# Altium footprint library Connector_Samtec_HLE_SMD.PcbLib: 290 footprints (part 2 of 24)
Each footprint in its own frame and in the unit in brackets; x right, y up, seen from the top. Pads: shape width x height; smd on the part's side, far side on the other; paste and mask are expansions set on the pad; w line width, h text height; cw(c..) or ccw(c..) is an arc to the next point about the centre after c.
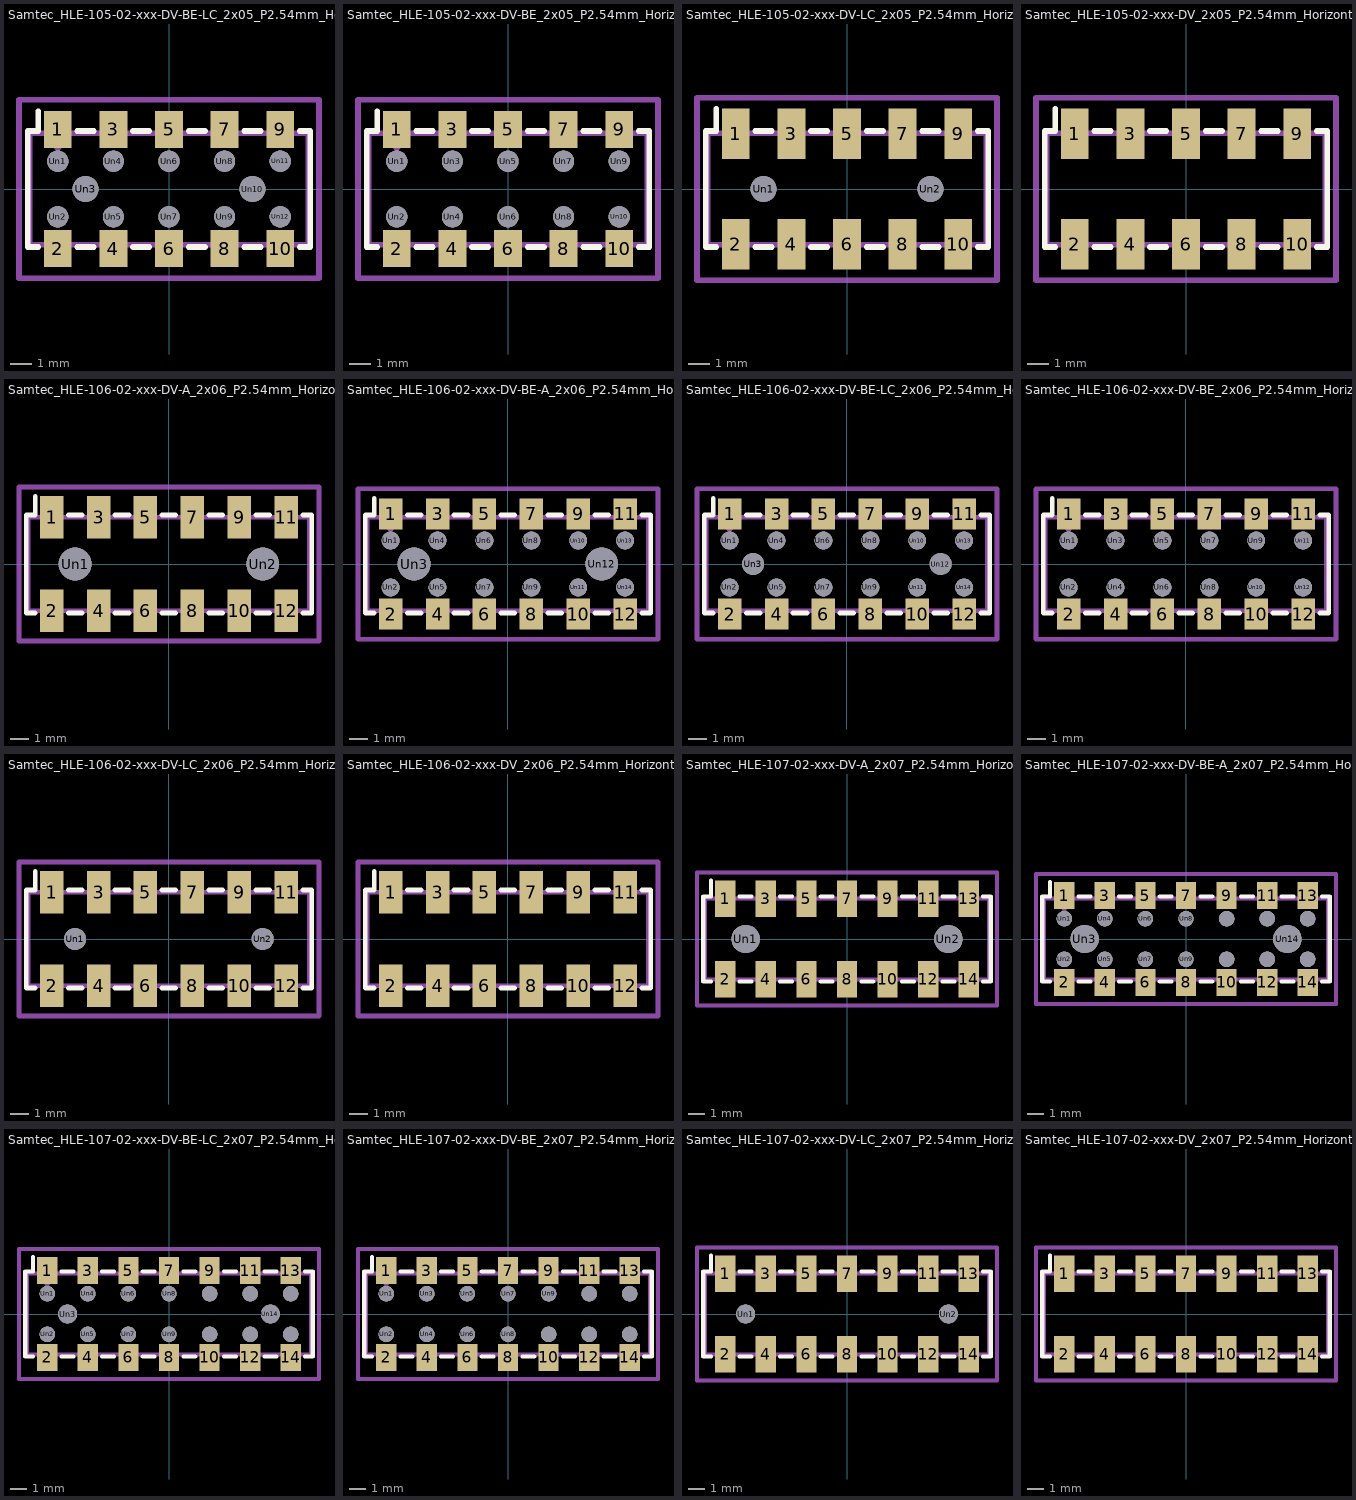
[diagram p1: the footprints below, top view; thin cyan lines are the x and y axes]

## Samtec_HLE-105-02-xxx-DV-BE-LC_2x05_P2.54mm_Horizontal [mm]
pads (22):
  rect 1.27x1.68 smd: 1(-5.08,2.72) 2(-5.08,-2.72) 3(-2.54,2.72) 4(-2.54,-2.72) 5(0,2.72) 6(0,-2.72) 7(2.54,2.72) 8(2.54,-2.72) 9(5.08,2.72) 10(5.08,-2.72)
  round 0.97 hole 0.97: Un1(-5.08,1.27) Un2(-5.08,-1.27) Un4(-2.54,1.27) Un5(-2.54,-1.27) Un6(0,1.27) Un7(0,-1.27) Un8(2.54,1.27) Un9(2.54,-1.27) Un11(5.08,1.27) Un12(5.08,-1.27)
  round 1.19 hole 1.19: Un3(-3.81,0) Un10(3.81,0)
F.SilkS:
  lines w0.254: -5.975,-2.65 -6.46,-2.65 -6.46,2.65 -5.975,2.65 -5.975,3.56 ; -4.185,-2.65 -3.435,-2.65 ; -4.185,2.65 -3.435,2.65 ; -1.645,-2.65 -0.895,-2.65 ; -1.645,2.65 -0.895,2.65 ; 0.895,-2.65 1.645,-2.65 ; 0.895,2.65 1.645,2.65 ; 3.435,-2.65 4.185,-2.65 ; 3.435,2.65 4.185,2.65 ; 5.975,-2.65 6.46,-2.65 6.46,2.65 5.975,2.65
Top Assembly:
  lines w0.254: -5.58,2.54 -5.08,1.833 -4.58,2.54 ; -6.35,-2.54 6.35,-2.54 6.35,2.54 -6.35,2.54 -6.35,-2.54
  text "'.Designator'" at -4.047,-2.68 h1
Top Courtyard:
  lines w0.254: -6.85,-4.07 6.85,-4.07 6.85,4.07 -6.85,4.07 -6.85,-4.07
Top Designator:
  text ".Designator" at -7.618,-0.508 h1.52

## Samtec_HLE-105-02-xxx-DV-BE_2x05_P2.54mm_Horizontal [mm]
pads (20):
  rect 1.27x1.68 smd: 1(-5.08,2.72) 2(-5.08,-2.72) 3(-2.54,2.72) 4(-2.54,-2.72) 5(0,2.72) 6(0,-2.72) 7(2.54,2.72) 8(2.54,-2.72) 9(5.08,2.72) 10(5.08,-2.72)
  round 0.97 hole 0.97: Un1(-5.08,1.27) Un2(-5.08,-1.27) Un3(-2.54,1.27) Un4(-2.54,-1.27) Un5(0,1.27) Un6(0,-1.27) Un7(2.54,1.27) Un8(2.54,-1.27) Un9(5.08,1.27) Un10(5.08,-1.27)
F.SilkS:
  lines w0.254: -5.975,-2.65 -6.46,-2.65 -6.46,2.65 -5.975,2.65 -5.975,3.56 ; -4.185,-2.65 -3.435,-2.65 ; -4.185,2.65 -3.435,2.65 ; -1.645,-2.65 -0.895,-2.65 ; -1.645,2.65 -0.895,2.65 ; 0.895,-2.65 1.645,-2.65 ; 0.895,2.65 1.645,2.65 ; 3.435,-2.65 4.185,-2.65 ; 3.435,2.65 4.185,2.65 ; 5.975,-2.65 6.46,-2.65 6.46,2.65 5.975,2.65
Top Assembly:
  lines w0.254: -5.58,2.54 -5.08,1.833 -4.58,2.54 ; -6.35,-2.54 6.35,-2.54 6.35,2.54 -6.35,2.54 -6.35,-2.54
  text "'.Designator'" at -4.047,-2.68 h1
Top Courtyard:
  lines w0.254: -6.85,-4.07 6.85,-4.07 6.85,4.07 -6.85,4.07 -6.85,-4.07
Top Designator:
  text ".Designator" at -7.618,-0.508 h1.52

## Samtec_HLE-105-02-xxx-DV-LC_2x05_P2.54mm_Horizontal [mm]
pads (12):
  rect 1.27x2.29 smd: 1(-5.08,2.525) 2(-5.08,-2.525) 3(-2.54,2.525) 4(-2.54,-2.525) 5(0,2.525) 6(0,-2.525) 7(2.54,2.525) 8(2.54,-2.525) 9(5.08,2.525) 10(5.08,-2.525)
  round 1.19 hole 1.19: Un1(-3.81,0) Un2(3.81,0)
F.SilkS:
  lines w0.254: -5.975,-2.65 -6.46,-2.65 -6.46,2.65 -5.975,2.65 -5.975,3.67 ; -4.185,-2.65 -3.435,-2.65 ; -4.185,2.65 -3.435,2.65 ; -1.645,-2.65 -0.895,-2.65 ; -1.645,2.65 -0.895,2.65 ; 0.895,-2.65 1.645,-2.65 ; 0.895,2.65 1.645,2.65 ; 3.435,-2.65 4.185,-2.65 ; 3.435,2.65 4.185,2.65 ; 5.975,-2.65 6.46,-2.65 6.46,2.65 5.975,2.65
Top Assembly:
  lines w0.254: -5.58,2.54 -5.08,1.833 -4.58,2.54 ; -6.35,-2.54 6.35,-2.54 6.35,2.54 -6.35,2.54 -6.35,-2.54
  text "'.Designator'" at -4.047,-2.68 h1
Top Courtyard:
  lines w0.254: -6.85,-4.17 6.85,-4.17 6.85,4.17 -6.85,4.17 -6.85,-4.17
Top Designator:
  text ".Designator" at -7.618,-0.508 h1.52

## Samtec_HLE-105-02-xxx-DV_2x05_P2.54mm_Horizontal [mm]
pads (10):
  rect 1.27x2.29 smd: 1(-5.08,2.525) 2(-5.08,-2.525) 3(-2.54,2.525) 4(-2.54,-2.525) 5(0,2.525) 6(0,-2.525) 7(2.54,2.525) 8(2.54,-2.525) 9(5.08,2.525) 10(5.08,-2.525)
F.SilkS:
  lines w0.254: -5.975,-2.65 -6.46,-2.65 -6.46,2.65 -5.975,2.65 -5.975,3.67 ; -4.185,-2.65 -3.435,-2.65 ; -4.185,2.65 -3.435,2.65 ; -1.645,-2.65 -0.895,-2.65 ; -1.645,2.65 -0.895,2.65 ; 0.895,-2.65 1.645,-2.65 ; 0.895,2.65 1.645,2.65 ; 3.435,-2.65 4.185,-2.65 ; 3.435,2.65 4.185,2.65 ; 5.975,-2.65 6.46,-2.65 6.46,2.65 5.975,2.65
Top Assembly:
  lines w0.254: -5.58,2.54 -5.08,1.833 -4.58,2.54 ; -6.35,-2.54 6.35,-2.54 6.35,2.54 -6.35,2.54 -6.35,-2.54
  text "'.Designator'" at -4.047,-2.68 h1
Top Courtyard:
  lines w0.254: -6.85,-4.17 6.85,-4.17 6.85,4.17 -6.85,4.17 -6.85,-4.17
Top Designator:
  text ".Designator" at -7.618,-0.508 h1.52

## Samtec_HLE-106-02-xxx-DV-A_2x06_P2.54mm_Horizontal [mm]
pads (14):
  rect 1.27x2.29 smd: 1(-6.35,2.525) 2(-6.35,-2.525) 3(-3.81,2.525) 4(-3.81,-2.525) 5(-1.27,2.525) 6(-1.27,-2.525) 7(1.27,2.525) 8(1.27,-2.525) 9(3.81,2.525) 10(3.81,-2.525) 11(6.35,2.525) 12(6.35,-2.525)
  round 1.78 hole 1.78: Un1(-5.08,0) Un2(5.08,0)
F.SilkS:
  lines w0.254: -7.245,-2.65 -7.73,-2.65 -7.73,2.65 -7.245,2.65 -7.245,3.67 ; -5.455,-2.65 -4.705,-2.65 ; -5.455,2.65 -4.705,2.65 ; -2.915,-2.65 -2.165,-2.65 ; -2.915,2.65 -2.165,2.65 ; -0.375,-2.65 0.375,-2.65 ; -0.375,2.65 0.375,2.65 ; 2.165,-2.65 2.915,-2.65 ; 2.165,2.65 2.915,2.65 ; 4.705,-2.65 5.455,-2.65 ; 4.705,2.65 5.455,2.65 ; 7.245,-2.65 7.73,-2.65 7.73,2.65 7.245,2.65
Top Assembly:
  lines w0.254: -6.85,2.54 -6.35,1.833 -5.85,2.54 ; -7.62,-2.54 7.62,-2.54 7.62,2.54 -7.62,2.54 -7.62,-2.54
  text "'.Designator'" at -4.047,-2.68 h1
Top Courtyard:
  lines w0.254: -8.12,-4.17 8.13,-4.17 8.13,4.17 -8.12,4.17 -8.12,-4.17
Top Designator:
  text ".Designator" at -7.613,-0.508 h1.52

## Samtec_HLE-106-02-xxx-DV-BE-A_2x06_P2.54mm_Horizontal [mm]
pads (26):
  rect 1.27x1.68 smd: 1(-6.35,2.72) 2(-6.35,-2.72) 3(-3.81,2.72) 4(-3.81,-2.72) 5(-1.27,2.72) 6(-1.27,-2.72) 7(1.27,2.72) 8(1.27,-2.72) 9(3.81,2.72) 10(3.81,-2.72) 11(6.35,2.72) 12(6.35,-2.72)
  round 0.97 hole 0.97: Un1(-6.35,1.27) Un2(-6.35,-1.27) Un4(-3.81,1.27) Un5(-3.81,-1.27) Un6(-1.27,1.27) Un7(-1.27,-1.27) Un8(1.27,1.27) Un9(1.27,-1.27) Un10(3.81,1.27) Un11(3.81,-1.27) Un13(6.35,1.27) Un14(6.35,-1.27)
  round 1.78 hole 1.78: Un3(-5.08,0) Un12(5.08,0)
F.SilkS:
  lines w0.254: -7.245,-2.65 -7.73,-2.65 -7.73,2.65 -7.245,2.65 -7.245,3.56 ; -5.455,-2.65 -4.705,-2.65 ; -5.455,2.65 -4.705,2.65 ; -2.915,-2.65 -2.165,-2.65 ; -2.915,2.65 -2.165,2.65 ; -0.375,-2.65 0.375,-2.65 ; -0.375,2.65 0.375,2.65 ; 2.165,-2.65 2.915,-2.65 ; 2.165,2.65 2.915,2.65 ; 4.705,-2.65 5.455,-2.65 ; 4.705,2.65 5.455,2.65 ; 7.245,-2.65 7.73,-2.65 7.73,2.65 7.245,2.65
Top Assembly:
  lines w0.254: -6.85,2.54 -6.35,1.833 -5.85,2.54 ; -7.62,-2.54 7.62,-2.54 7.62,2.54 -7.62,2.54 -7.62,-2.54
  text "'.Designator'" at -4.047,-2.68 h1
Top Courtyard:
  lines w0.254: -8.12,-4.07 8.13,-4.07 8.13,4.07 -8.12,4.07 -8.12,-4.07
Top Designator:
  text ".Designator" at -7.613,-0.508 h1.52

## Samtec_HLE-106-02-xxx-DV-BE-LC_2x06_P2.54mm_Horizontal [mm]
pads (26):
  rect 1.27x1.68 smd: 1(-6.35,2.72) 2(-6.35,-2.72) 3(-3.81,2.72) 4(-3.81,-2.72) 5(-1.27,2.72) 6(-1.27,-2.72) 7(1.27,2.72) 8(1.27,-2.72) 9(3.81,2.72) 10(3.81,-2.72) 11(6.35,2.72) 12(6.35,-2.72)
  round 0.97 hole 0.97: Un1(-6.35,1.27) Un2(-6.35,-1.27) Un4(-3.81,1.27) Un5(-3.81,-1.27) Un6(-1.27,1.27) Un7(-1.27,-1.27) Un8(1.27,1.27) Un9(1.27,-1.27) Un10(3.81,1.27) Un11(3.81,-1.27) Un13(6.35,1.27) Un14(6.35,-1.27)
  round 1.19 hole 1.19: Un3(-5.08,0) Un12(5.08,0)
F.SilkS:
  lines w0.254: -7.245,-2.65 -7.73,-2.65 -7.73,2.65 -7.245,2.65 -7.245,3.56 ; -5.455,-2.65 -4.705,-2.65 ; -5.455,2.65 -4.705,2.65 ; -2.915,-2.65 -2.165,-2.65 ; -2.915,2.65 -2.165,2.65 ; -0.375,-2.65 0.375,-2.65 ; -0.375,2.65 0.375,2.65 ; 2.165,-2.65 2.915,-2.65 ; 2.165,2.65 2.915,2.65 ; 4.705,-2.65 5.455,-2.65 ; 4.705,2.65 5.455,2.65 ; 7.245,-2.65 7.73,-2.65 7.73,2.65 7.245,2.65
Top Assembly:
  lines w0.254: -6.85,2.54 -6.35,1.833 -5.85,2.54 ; -7.62,-2.54 7.62,-2.54 7.62,2.54 -7.62,2.54 -7.62,-2.54
  text "'.Designator'" at -4.047,-2.68 h1
Top Courtyard:
  lines w0.254: -8.12,-4.07 8.13,-4.07 8.13,4.07 -8.12,4.07 -8.12,-4.07
Top Designator:
  text ".Designator" at -7.613,-0.508 h1.52

## Samtec_HLE-106-02-xxx-DV-BE_2x06_P2.54mm_Horizontal [mm]
pads (24):
  rect 1.27x1.68 smd: 1(-6.35,2.72) 2(-6.35,-2.72) 3(-3.81,2.72) 4(-3.81,-2.72) 5(-1.27,2.72) 6(-1.27,-2.72) 7(1.27,2.72) 8(1.27,-2.72) 9(3.81,2.72) 10(3.81,-2.72) 11(6.35,2.72) 12(6.35,-2.72)
  round 0.97 hole 0.97: Un1(-6.35,1.27) Un2(-6.35,-1.27) Un3(-3.81,1.27) Un4(-3.81,-1.27) Un5(-1.27,1.27) Un6(-1.27,-1.27) Un7(1.27,1.27) Un8(1.27,-1.27) Un9(3.81,1.27) Un10(3.81,-1.27) Un11(6.35,1.27) Un12(6.35,-1.27)
F.SilkS:
  lines w0.254: -7.245,-2.65 -7.73,-2.65 -7.73,2.65 -7.245,2.65 -7.245,3.56 ; -5.455,-2.65 -4.705,-2.65 ; -5.455,2.65 -4.705,2.65 ; -2.915,-2.65 -2.165,-2.65 ; -2.915,2.65 -2.165,2.65 ; -0.375,-2.65 0.375,-2.65 ; -0.375,2.65 0.375,2.65 ; 2.165,-2.65 2.915,-2.65 ; 2.165,2.65 2.915,2.65 ; 4.705,-2.65 5.455,-2.65 ; 4.705,2.65 5.455,2.65 ; 7.245,-2.65 7.73,-2.65 7.73,2.65 7.245,2.65
Top Assembly:
  lines w0.254: -6.85,2.54 -6.35,1.833 -5.85,2.54 ; -7.62,-2.54 7.62,-2.54 7.62,2.54 -7.62,2.54 -7.62,-2.54
  text "'.Designator'" at -4.047,-2.68 h1
Top Courtyard:
  lines w0.254: -8.12,-4.07 8.13,-4.07 8.13,4.07 -8.12,4.07 -8.12,-4.07
Top Designator:
  text ".Designator" at -7.613,-0.508 h1.52

## Samtec_HLE-106-02-xxx-DV-LC_2x06_P2.54mm_Horizontal [mm]
pads (14):
  rect 1.27x2.29 smd: 1(-6.35,2.525) 2(-6.35,-2.525) 3(-3.81,2.525) 4(-3.81,-2.525) 5(-1.27,2.525) 6(-1.27,-2.525) 7(1.27,2.525) 8(1.27,-2.525) 9(3.81,2.525) 10(3.81,-2.525) 11(6.35,2.525) 12(6.35,-2.525)
  round 1.19 hole 1.19: Un1(-5.08,0) Un2(5.08,0)
F.SilkS:
  lines w0.254: -7.245,-2.65 -7.73,-2.65 -7.73,2.65 -7.245,2.65 -7.245,3.67 ; -5.455,-2.65 -4.705,-2.65 ; -5.455,2.65 -4.705,2.65 ; -2.915,-2.65 -2.165,-2.65 ; -2.915,2.65 -2.165,2.65 ; -0.375,-2.65 0.375,-2.65 ; -0.375,2.65 0.375,2.65 ; 2.165,-2.65 2.915,-2.65 ; 2.165,2.65 2.915,2.65 ; 4.705,-2.65 5.455,-2.65 ; 4.705,2.65 5.455,2.65 ; 7.245,-2.65 7.73,-2.65 7.73,2.65 7.245,2.65
Top Assembly:
  lines w0.254: -6.85,2.54 -6.35,1.833 -5.85,2.54 ; -7.62,-2.54 7.62,-2.54 7.62,2.54 -7.62,2.54 -7.62,-2.54
  text "'.Designator'" at -4.047,-2.68 h1
Top Courtyard:
  lines w0.254: -8.12,-4.17 8.13,-4.17 8.13,4.17 -8.12,4.17 -8.12,-4.17
Top Designator:
  text ".Designator" at -7.613,-0.508 h1.52

## Samtec_HLE-106-02-xxx-DV_2x06_P2.54mm_Horizontal [mm]
pads (12):
  rect 1.27x2.29 smd: 1(-6.35,2.525) 2(-6.35,-2.525) 3(-3.81,2.525) 4(-3.81,-2.525) 5(-1.27,2.525) 6(-1.27,-2.525) 7(1.27,2.525) 8(1.27,-2.525) 9(3.81,2.525) 10(3.81,-2.525) 11(6.35,2.525) 12(6.35,-2.525)
F.SilkS:
  lines w0.254: -7.245,-2.65 -7.73,-2.65 -7.73,2.65 -7.245,2.65 -7.245,3.67 ; -5.455,-2.65 -4.705,-2.65 ; -5.455,2.65 -4.705,2.65 ; -2.915,-2.65 -2.165,-2.65 ; -2.915,2.65 -2.165,2.65 ; -0.375,-2.65 0.375,-2.65 ; -0.375,2.65 0.375,2.65 ; 2.165,-2.65 2.915,-2.65 ; 2.165,2.65 2.915,2.65 ; 4.705,-2.65 5.455,-2.65 ; 4.705,2.65 5.455,2.65 ; 7.245,-2.65 7.73,-2.65 7.73,2.65 7.245,2.65
Top Assembly:
  lines w0.254: -6.85,2.54 -6.35,1.833 -5.85,2.54 ; -7.62,-2.54 7.62,-2.54 7.62,2.54 -7.62,2.54 -7.62,-2.54
  text "'.Designator'" at -4.047,-2.68 h1
Top Courtyard:
  lines w0.254: -8.12,-4.17 8.13,-4.17 8.13,4.17 -8.12,4.17 -8.12,-4.17
Top Designator:
  text ".Designator" at -7.613,-0.508 h1.52

## Samtec_HLE-107-02-xxx-DV-A_2x07_P2.54mm_Horizontal [mm]
pads (16):
  rect 1.27x2.29 smd: 1(-7.62,2.525) 2(-7.62,-2.525) 3(-5.08,2.525) 4(-5.08,-2.525) 5(-2.54,2.525) 6(-2.54,-2.525) 7(0,2.525) 8(0,-2.525) 9(2.54,2.525) 10(2.54,-2.525) 11(5.08,2.525) 12(5.08,-2.525) 13(7.62,2.525) 14(7.62,-2.525)
  round 1.78 hole 1.78: Un1(-6.35,0) Un2(6.35,0)
F.SilkS:
  lines w0.254: -8.515,-2.65 -9,-2.65 -9,2.65 -8.515,2.65 -8.515,3.67 ; -6.725,-2.65 -5.975,-2.65 ; -6.725,2.65 -5.975,2.65 ; -4.185,-2.65 -3.435,-2.65 ; -4.185,2.65 -3.435,2.65 ; -1.645,-2.65 -0.895,-2.65 ; -1.645,2.65 -0.895,2.65 ; 0.895,-2.65 1.645,-2.65 ; 0.895,2.65 1.645,2.65 ; 3.435,-2.65 4.185,-2.65 ; 3.435,2.65 4.185,2.65 ; 5.975,-2.65 6.725,-2.65 ; 5.975,2.65 6.725,2.65 ; 8.515,-2.65 9,-2.65 9,2.65 8.515,2.65
Top Assembly:
  lines w0.254: -8.12,2.54 -7.62,1.833 -7.12,2.54 ; -8.89,-2.54 8.89,-2.54 8.89,2.54 -8.89,2.54 -8.89,-2.54
  text "'.Designator'" at -4.047,-2.68 h1
Top Courtyard:
  lines w0.254: -9.39,-4.17 9.39,-4.17 9.39,4.17 -9.39,4.17 -9.39,-4.17
Top Designator:
  text ".Designator" at -7.618,-0.508 h1.52

## Samtec_HLE-107-02-xxx-DV-BE-A_2x07_P2.54mm_Horizontal [mm]
pads (30):
  rect 1.27x1.68 smd: 1(-7.62,2.72) 2(-7.62,-2.72) 3(-5.08,2.72) 4(-5.08,-2.72) 5(-2.54,2.72) 6(-2.54,-2.72) 7(0,2.72) 8(0,-2.72) 9(2.54,2.72) 10(2.54,-2.72) 11(5.08,2.72) 12(5.08,-2.72) 13(7.62,2.72) 14(7.62,-2.72)
  round 0.97 hole 0.97: Un1(-7.62,1.27) Un2(-7.62,-1.27) Un4(-5.08,1.27) Un5(-5.08,-1.27) Un6(-2.54,1.27) Un7(-2.54,-1.27) Un8(0,1.27) Un9(0,-1.27) Un10(2.54,1.27) Un11(2.54,-1.27) Un12(5.08,1.27) Un13(5.08,-1.27) Un15(7.62,1.27) Un16(7.62,-1.27)
  round 1.78 hole 1.78: Un3(-6.35,0) Un14(6.35,0)
F.SilkS:
  lines w0.254: -8.515,-2.65 -9,-2.65 -9,2.65 -8.515,2.65 -8.515,3.56 ; -6.725,-2.65 -5.975,-2.65 ; -6.725,2.65 -5.975,2.65 ; -4.185,-2.65 -3.435,-2.65 ; -4.185,2.65 -3.435,2.65 ; -1.645,-2.65 -0.895,-2.65 ; -1.645,2.65 -0.895,2.65 ; 0.895,-2.65 1.645,-2.65 ; 0.895,2.65 1.645,2.65 ; 3.435,-2.65 4.185,-2.65 ; 3.435,2.65 4.185,2.65 ; 5.975,-2.65 6.725,-2.65 ; 5.975,2.65 6.725,2.65 ; 8.515,-2.65 9,-2.65 9,2.65 8.515,2.65
Top Assembly:
  lines w0.254: -8.12,2.54 -7.62,1.833 -7.12,2.54 ; -8.89,-2.54 8.89,-2.54 8.89,2.54 -8.89,2.54 -8.89,-2.54
  text "'.Designator'" at -4.047,-2.68 h1
Top Courtyard:
  lines w0.254: -9.39,-4.07 9.39,-4.07 9.39,4.07 -9.39,4.07 -9.39,-4.07
Top Designator:
  text ".Designator" at -7.618,-0.508 h1.52

## Samtec_HLE-107-02-xxx-DV-BE-LC_2x07_P2.54mm_Horizontal [mm]
pads (30):
  rect 1.27x1.68 smd: 1(-7.62,2.72) 2(-7.62,-2.72) 3(-5.08,2.72) 4(-5.08,-2.72) 5(-2.54,2.72) 6(-2.54,-2.72) 7(0,2.72) 8(0,-2.72) 9(2.54,2.72) 10(2.54,-2.72) 11(5.08,2.72) 12(5.08,-2.72) 13(7.62,2.72) 14(7.62,-2.72)
  round 0.97 hole 0.97: Un1(-7.62,1.27) Un2(-7.62,-1.27) Un4(-5.08,1.27) Un5(-5.08,-1.27) Un6(-2.54,1.27) Un7(-2.54,-1.27) Un8(0,1.27) Un9(0,-1.27) Un10(2.54,1.27) Un11(2.54,-1.27) Un12(5.08,1.27) Un13(5.08,-1.27) Un15(7.62,1.27) Un16(7.62,-1.27)
  round 1.19 hole 1.19: Un3(-6.35,0) Un14(6.35,0)
F.SilkS:
  lines w0.254: -8.515,-2.65 -9,-2.65 -9,2.65 -8.515,2.65 -8.515,3.56 ; -6.725,-2.65 -5.975,-2.65 ; -6.725,2.65 -5.975,2.65 ; -4.185,-2.65 -3.435,-2.65 ; -4.185,2.65 -3.435,2.65 ; -1.645,-2.65 -0.895,-2.65 ; -1.645,2.65 -0.895,2.65 ; 0.895,-2.65 1.645,-2.65 ; 0.895,2.65 1.645,2.65 ; 3.435,-2.65 4.185,-2.65 ; 3.435,2.65 4.185,2.65 ; 5.975,-2.65 6.725,-2.65 ; 5.975,2.65 6.725,2.65 ; 8.515,-2.65 9,-2.65 9,2.65 8.515,2.65
Top Assembly:
  lines w0.254: -8.12,2.54 -7.62,1.833 -7.12,2.54 ; -8.89,-2.54 8.89,-2.54 8.89,2.54 -8.89,2.54 -8.89,-2.54
  text "'.Designator'" at -4.047,-2.68 h1
Top Courtyard:
  lines w0.254: -9.39,-4.07 9.39,-4.07 9.39,4.07 -9.39,4.07 -9.39,-4.07
Top Designator:
  text ".Designator" at -7.618,-0.508 h1.52

## Samtec_HLE-107-02-xxx-DV-BE_2x07_P2.54mm_Horizontal [mm]
pads (28):
  rect 1.27x1.68 smd: 1(-7.62,2.72) 2(-7.62,-2.72) 3(-5.08,2.72) 4(-5.08,-2.72) 5(-2.54,2.72) 6(-2.54,-2.72) 7(0,2.72) 8(0,-2.72) 9(2.54,2.72) 10(2.54,-2.72) 11(5.08,2.72) 12(5.08,-2.72) 13(7.62,2.72) 14(7.62,-2.72)
  round 0.97 hole 0.97: Un1(-7.62,1.27) Un2(-7.62,-1.27) Un3(-5.08,1.27) Un4(-5.08,-1.27) Un5(-2.54,1.27) Un6(-2.54,-1.27) Un7(0,1.27) Un8(0,-1.27) Un9(2.54,1.27) Un10(2.54,-1.27) Un11(5.08,1.27) Un12(5.08,-1.27) Un13(7.62,1.27) Un14(7.62,-1.27)
F.SilkS:
  lines w0.254: -8.515,-2.65 -9,-2.65 -9,2.65 -8.515,2.65 -8.515,3.56 ; -6.725,-2.65 -5.975,-2.65 ; -6.725,2.65 -5.975,2.65 ; -4.185,-2.65 -3.435,-2.65 ; -4.185,2.65 -3.435,2.65 ; -1.645,-2.65 -0.895,-2.65 ; -1.645,2.65 -0.895,2.65 ; 0.895,-2.65 1.645,-2.65 ; 0.895,2.65 1.645,2.65 ; 3.435,-2.65 4.185,-2.65 ; 3.435,2.65 4.185,2.65 ; 5.975,-2.65 6.725,-2.65 ; 5.975,2.65 6.725,2.65 ; 8.515,-2.65 9,-2.65 9,2.65 8.515,2.65
Top Assembly:
  lines w0.254: -8.12,2.54 -7.62,1.833 -7.12,2.54 ; -8.89,-2.54 8.89,-2.54 8.89,2.54 -8.89,2.54 -8.89,-2.54
  text "'.Designator'" at -4.047,-2.68 h1
Top Courtyard:
  lines w0.254: -9.39,-4.07 9.39,-4.07 9.39,4.07 -9.39,4.07 -9.39,-4.07
Top Designator:
  text ".Designator" at -7.618,-0.508 h1.52

## Samtec_HLE-107-02-xxx-DV-LC_2x07_P2.54mm_Horizontal [mm]
pads (16):
  rect 1.27x2.29 smd: 1(-7.62,2.525) 2(-7.62,-2.525) 3(-5.08,2.525) 4(-5.08,-2.525) 5(-2.54,2.525) 6(-2.54,-2.525) 7(0,2.525) 8(0,-2.525) 9(2.54,2.525) 10(2.54,-2.525) 11(5.08,2.525) 12(5.08,-2.525) 13(7.62,2.525) 14(7.62,-2.525)
  round 1.19 hole 1.19: Un1(-6.35,0) Un2(6.35,0)
F.SilkS:
  lines w0.254: -8.515,-2.65 -9,-2.65 -9,2.65 -8.515,2.65 -8.515,3.67 ; -6.725,-2.65 -5.975,-2.65 ; -6.725,2.65 -5.975,2.65 ; -4.185,-2.65 -3.435,-2.65 ; -4.185,2.65 -3.435,2.65 ; -1.645,-2.65 -0.895,-2.65 ; -1.645,2.65 -0.895,2.65 ; 0.895,-2.65 1.645,-2.65 ; 0.895,2.65 1.645,2.65 ; 3.435,-2.65 4.185,-2.65 ; 3.435,2.65 4.185,2.65 ; 5.975,-2.65 6.725,-2.65 ; 5.975,2.65 6.725,2.65 ; 8.515,-2.65 9,-2.65 9,2.65 8.515,2.65
Top Assembly:
  lines w0.254: -8.12,2.54 -7.62,1.833 -7.12,2.54 ; -8.89,-2.54 8.89,-2.54 8.89,2.54 -8.89,2.54 -8.89,-2.54
  text "'.Designator'" at -4.047,-2.68 h1
Top Courtyard:
  lines w0.254: -9.39,-4.17 9.39,-4.17 9.39,4.17 -9.39,4.17 -9.39,-4.17
Top Designator:
  text ".Designator" at -7.618,-0.508 h1.52

## Samtec_HLE-107-02-xxx-DV_2x07_P2.54mm_Horizontal [mm]
pads (14):
  rect 1.27x2.29 smd: 1(-7.62,2.525) 2(-7.62,-2.525) 3(-5.08,2.525) 4(-5.08,-2.525) 5(-2.54,2.525) 6(-2.54,-2.525) 7(0,2.525) 8(0,-2.525) 9(2.54,2.525) 10(2.54,-2.525) 11(5.08,2.525) 12(5.08,-2.525) 13(7.62,2.525) 14(7.62,-2.525)
F.SilkS:
  lines w0.254: -8.515,-2.65 -9,-2.65 -9,2.65 -8.515,2.65 -8.515,3.67 ; -6.725,-2.65 -5.975,-2.65 ; -6.725,2.65 -5.975,2.65 ; -4.185,-2.65 -3.435,-2.65 ; -4.185,2.65 -3.435,2.65 ; -1.645,-2.65 -0.895,-2.65 ; -1.645,2.65 -0.895,2.65 ; 0.895,-2.65 1.645,-2.65 ; 0.895,2.65 1.645,2.65 ; 3.435,-2.65 4.185,-2.65 ; 3.435,2.65 4.185,2.65 ; 5.975,-2.65 6.725,-2.65 ; 5.975,2.65 6.725,2.65 ; 8.515,-2.65 9,-2.65 9,2.65 8.515,2.65
Top Assembly:
  lines w0.254: -8.12,2.54 -7.62,1.833 -7.12,2.54 ; -8.89,-2.54 8.89,-2.54 8.89,2.54 -8.89,2.54 -8.89,-2.54
  text "'.Designator'" at -4.047,-2.68 h1
Top Courtyard:
  lines w0.254: -9.39,-4.17 9.39,-4.17 9.39,4.17 -9.39,4.17 -9.39,-4.17
Top Designator:
  text ".Designator" at -7.618,-0.508 h1.52